# Altium schematic symbol library Res_Vishay_CRCW06030000Z0EAHP_0_Ohm.SchLib: 1 symbol
Pins are listed as number, name and electrical type; pins without a type are passive.

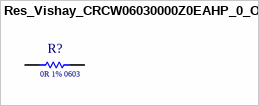
[diagram p0: symbol Res_Vishay_CRCW06030000Z0EAHP_0_Ohm]

## Res_Vishay_CRCW06030000Z0EAHP_0_Ohm
designator R?  Resistance: 0R 1% 0603  (hidden comment: Res_Vishay_CRCW06030000Z0EAHP_0_Ohm)
0R 0.25W 1% 0603 (1608 Metric)  SMD; Supplier 1: Mouser; Supplier Part Number 1: 71-CRCW06030000Z0EAH
footprint Res_Vishay_CRCW06030000Z0EAHP_0_Ohm_duplicate
pins: 1, 2